# Altium schematic symbol library C2012X7R1H105K125AB.SchLib: 1 symbol
Pins are listed as number, name and electrical type; pins without a type are passive.

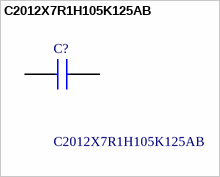
[diagram p0: symbol C2012X7R1H105K125AB]

## C2012X7R1H105K125AB
designator C?
MULTILAYER CERAMIC CHIP CAPACITORS, 2012, Commercial grade, general (Up to 75V); Manufacturer_Name: TDK; Geometry.Height: 1.45mm; Mouser Part Number: 810-C2012X7R1H105K; Mouser Price/Stock: https://www.mouser.co.uk/ProductDetail/TDK/C2012X7R1H105K125AB?qs=NRhsANhppD9AlYlb8kBg7Q%3D%3D; Manufacturer_Part_Number: C2012X7R1H105K125AB; Datasheet Link: https://product.tdk.com/info/en/catalog/datasheets/mlcc_commercial_midvoltage_en.pdf
footprint CAPC2012X145N
pins: 1, 2